# EAGLE library part TPS60502 (library xnemo)
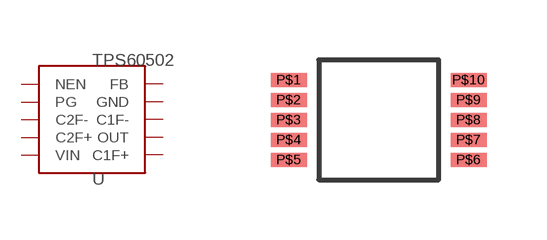
[diagram p3: symbol with the pads of TI_MSOP10; footprint TI_MSOP10]

Designator prefix U

## TPS60502  [TI_MSOP10]
P$1  NEN
P$2  PG
P$3  C2F-
P$4  C2F+
P$5  VIN
P$6  C1F+
P$7  OUT
P$8  C1F-
P$9  GND
P$10  FB

## Footprint TI_MSOP10 (pad centres in mm)
smd 0.9 x 0.35: P$1 -2.25,1; P$2 -2.25,0.5; P$3 -2.25,0; P$4 -2.25,-0.5; P$5 -2.25,-1; P$6 2.25,-1; P$7 2.25,-0.5; P$8 2.25,0; P$9 2.25,0.5; P$10 2.25,1